# Altium footprint library ams_custom.PcbLib: 3 footprints
Each footprint in its own frame and in the unit in brackets; x right, y up, seen from the top. Pads: shape width x height; smd on the part's side, far side on the other; paste and mask are expansions set on the pad; w line width, h text height; cw(c..) or ccw(c..) is an arc to the next point about the centre after c.
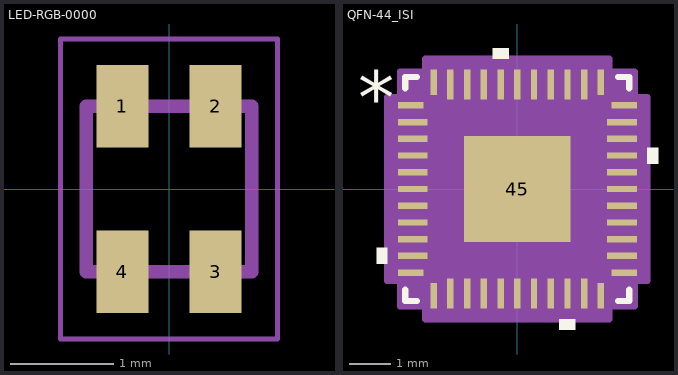
[diagram p0: the footprints below, top view; thin cyan lines are the x and y axes]

## LED-RGB-0000 [mm]
pads (4):
  rect 0.5x0.8 smd: 1(-0.45,0.8) 2(0.45,0.8) 3(0.45,-0.8) 4(-0.45,-0.8)
Mechanical 13:
  lines w0.127: -0.8,-0.8 -0.8,0.8 0.8,0.8 0.8,-0.8 -0.8,-0.8
Mechanical 15:
  lines w0.05: -1.05,-1.45 -1.05,1.45 1.05,1.45 1.05,-1.45 -1.05,-1.45
3D body "step_temp.STEP": height 0.4, standoff 0, extent -0.8,-0.8 0.8,0.8

## PCBComponent_1 [mil]

## QFN-44_ISI [mil]
pads (45):
  rect 24x6 smd paste+0 mask+0: 1(-100.5,78.74) 11(-100.5,-78.74) 23(100.5,-78.74) 33(100.5,78.74)
  rect 28x6 smd paste+0 mask+0: 2(-98.5,62.99) 3(-98.5,47.24) 4(-98.5,31.5) 5(-98.5,15.75) 6(-98.5,0) 7(-98.5,-15.75) 8(-98.5,-31.5) 9(-98.5,-47.24) 10(-98.5,-62.99) 24(98.5,-62.99) 25(98.5,-47.24) 26(98.5,-31.5) 27(98.5,-15.75) 28(98.5,0) 29(98.5,15.75) 30(98.5,31.5) 31(98.5,47.24) 32(98.5,62.99)
  rect 6x24 smd paste+0 mask+0: 12(-78.74,-100.5) 22(78.74,-100.5) 34(78.74,100.5) 44(-78.74,100.5)
  rect 6x28 smd paste+0 mask+0: 13(-62.99,-98.5) 14(-47.24,-98.5) 15(-31.5,-98.5) 16(-15.75,-98.5) 17(0,-98.5) 18(15.75,-98.5) 19(31.5,-98.5) 20(47.24,-98.5) 21(62.99,-98.5) 35(62.99,98.5) 36(47.24,98.5) 37(31.5,98.5) 38(15.75,98.5) 39(0,98.5) 40(-15.75,98.5) 41(-31.5,98.5) 42(-47.24,98.5) 43(-62.99,98.5)
  rect 100x100 smd paste-49.5 mask+0: 45(0,0)
Top Overlay:
  region: -8.25,122.5 -23.25,122.5 -23.25,132.5 -8.25,132.5
  region: 122.5,39 132.5,39 132.5,24 122.5,24
  region: 54.74,-122.5 39.74,-122.5 39.74,-132.5 54.74,-132.5
  region: -122.5,-55.49 -132.5,-55.49 -132.5,-70.49 -122.5,-70.49
  lines w6: -105.5,-94.84 -105.5,-105.5 -94.84,-105.5 ; -105.5,94.84 -105.5,105.5 -94.84,105.5 ; 94.84,-105.5 105.5,-105.5 105.5,-94.84 ; 94.84,105.5 105.5,105.5 105.5,94.84
  text "*" at -150,61.61 h50
Top Paste:
  region: 46.06,-3.94 3.94,-3.94 3.94,-46.06 46.06,-46.06
  region: 46.06,46.06 3.94,46.06 3.94,3.94 46.06,3.94
  region: -3.94,-3.94 -46.06,-3.94 -46.06,-46.06 -3.94,-46.06
  region: -3.94,46.06 -46.06,46.06 -46.06,3.94 -3.94,3.94
Mechanical 13:
  lines w1: -100.5,50.5 -50.5,100.5 ; -100.5,-100.5 -100.5,100.5 100.5,100.5 100.5,-100.5 -100.5,-100.5 ; -100.5,-82.74 -100.5,-74.74 -100.5,-82.74 ; -100.5,-66.99 -100.5,-58.99 -100.5,-66.99 ; -100.5,-51.24 -100.5,-43.24 -100.5,-51.24 ; -100.5,-35.5 -100.5,-27.5 -100.5,-35.5 ; -100.5,-19.75 -100.5,-11.75 -100.5,-19.75 ; -100.5,-4 -100.5,4 -100.5,-4 ; -100.5,11.75 -100.5,19.75 -100.5,11.75 ; -100.5,27.5 -100.5,35.5 -100.5,27.5 ; -100.5,43.24 -100.5,51.24 -100.5,43.24 ; -100.5,58.99 -100.5,66.99 -100.5,58.99 ; -100.5,74.74 -100.5,82.74 -100.5,74.74 ; -82.74,-100.5 -74.74,-100.5 -82.74,-100.5 ; -82.74,100.5 -74.74,100.5 -82.74,100.5 ; -66.99,-100.5 -58.99,-100.5 -66.99,-100.5 ; -66.99,100.5 -58.99,100.5 -66.99,100.5 ; -51.24,-100.5 -43.24,-100.5 -51.24,-100.5 ; -51.24,100.5 -43.24,100.5 -51.24,100.5 ; -35.5,-100.5 -27.5,-100.5 -35.5,-100.5 ; -35.5,100.5 -27.5,100.5 -35.5,100.5 ; -19.75,-100.5 -11.75,-100.5 -19.75,-100.5 ; -19.75,100.5 -11.75,100.5 -19.75,100.5 ; -4,-100.5 4,-100.5 -4,-100.5 ; -4,100.5 4,100.5 -4,100.5 ; 11.75,-100.5 19.75,-100.5 11.75,-100.5 ; 11.75,100.5 19.75,100.5 11.75,100.5 ; 27.5,-100.5 35.5,-100.5 27.5,-100.5 ; 27.5,100.5 35.5,100.5 27.5,100.5 ; 43.24,-100.5 51.24,-100.5 43.24,-100.5 ; 43.24,100.5 51.24,100.5 43.24,100.5 ; 58.99,-100.5 66.99,-100.5 58.99,-100.5 ; 58.99,100.5 66.99,100.5 58.99,100.5 ; 74.74,-100.5 82.74,-100.5 74.74,-100.5 ; 74.74,100.5 82.74,100.5 74.74,100.5 ; 100.5,-82.74 100.5,-74.74 100.5,-82.74 ; 100.5,-66.99 100.5,-58.99 100.5,-66.99 ; 100.5,-51.24 100.5,-43.24 100.5,-51.24 ; 100.5,-35.5 100.5,-27.5 100.5,-35.5 ; 100.5,-19.75 100.5,-11.75 100.5,-19.75 ; 100.5,-4 100.5,4 100.5,-4 ; 100.5,11.75 100.5,19.75 100.5,11.75 ; 100.5,27.5 100.5,35.5 100.5,27.5 ; 100.5,43.24 100.5,51.24 100.5,43.24 ; 100.5,58.99 100.5,66.99 100.5,58.99 ; 100.5,74.74 100.5,82.74 100.5,74.74
  text "*" at -97,61.61 h50
Mechanical 15:
  region: -86.61,-110.5 -110.5,-110.5 -110.5,-86.61 -122.5,-86.61 -122.5,86.61 -110.5,86.61 -110.5,110.5 -86.61,110.5 -86.61,122.5 86.61,122.5 86.61,110.5 110.5,110.5 110.5,86.61 122.5,86.61 122.5,-86.61 110.5,-86.61 110.5,-110.5 86.61,-110.5 86.61,-122.5 -86.61,-122.5
  lines w6: -122.5,-86.61 -122.5,86.61 -110.5,86.61 -110.5,110.5 -86.61,110.5 -86.61,122.5 86.61,122.5 86.61,110.5 110.5,110.5 110.5,86.61 122.5,86.61 122.5,-86.61 110.5,-86.61 110.5,-110.5 86.61,-110.5 86.61,-122.5 -86.61,-122.5 -86.61,-110.5 -110.5,-110.5 -110.5,-86.61 -122.5,-86.61
3D body "QFN-44_ISI.step": height 32.09, standoff 0, extent -100.51,-100.51 100.51,100.51